# Altium schematic symbol library te.SchLib: 3 symbols
Pins are listed as number, name and electrical type; pins without a type are passive.

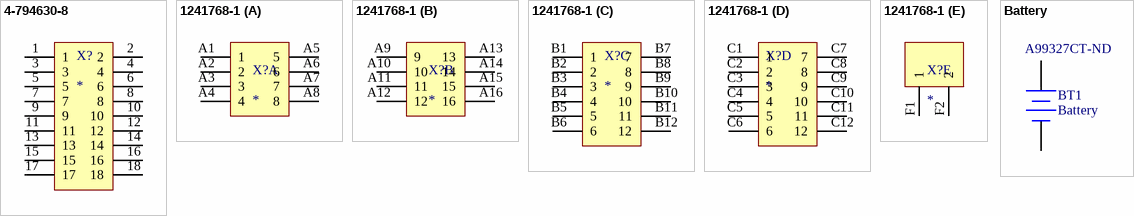
[diagram p0: symbols 4-794630-8 to Battery]

## 4-794630-8
designator X?
CONN HEADER 3MM 18POS DUAL TIN; Manufacturer PN: 4-794630-8; Digikey PN: A33227-ND
footprint TE-C-794630 (VERTICAL HEADER ASSEMBLY, THRU HOLE, TIN, DUAL ROW, MICRO MATE-N-LOK)
pins: 1, 2, 3, 4, 5, 6, 7, 8, 9, 10, 11, 12, 13, 14, 15, 16, 17, 18

## 1241768-1
designator X?
Micro-Power & Power Quadlok System; Manufacturer PN: 1241768-1; Digikey PN: 1241768-1-ND
footprint QUADLOK (Micro-Power & Power Quadlok System)
part A pins: A1 1, A2 2, A3 3, A4 4, A5 5, A6 6, A7 7, A8 8
part B pins: A9 9, A10 10, A11 11, A12 12, A13 13, A14 14, A15 15, A16 16
part C pins: B1 1, B2 2, B3 3, B4 4, B5 5, B6 6, B7 7, B8 8, B9 9, B10 10, B11 11, B12 12
part D pins: C1 1, C2 2, C3 3, C4 4, C5 5, C6 6, C7 7, C8 8, C9 9, C10 10, C11 11, C12 12
part E pins: F1 1, F2 2

## Battery
designator BT1  Supplier Part Number 1: A99327CT-ND
Multicell Battery; Published: 24-Mar-1999; LatestRevisionDate: 17-Jul-2002; LatestRevisionNote: Re-released for DXP Platform.; PackageReference: BAT-2; Publisher: Altium Limited; PackageDescription: Battery; 2 Leads; Supplier 1: Digi-Key
footprint 796136-1 (Battery Connector, Surface Mount)
pins: 1 +, 2 -